# Altium footprint library resistor.PcbLib: 1 footprints
Each footprint in its own frame and in the unit in brackets; x right, y up, seen from the top. Pads: shape width x height; smd on the part's side, far side on the other; paste and mask are expansions set on the pad; w line width, h text height; cw(c..) or ccw(c..) is an arc to the next point about the centre after c.
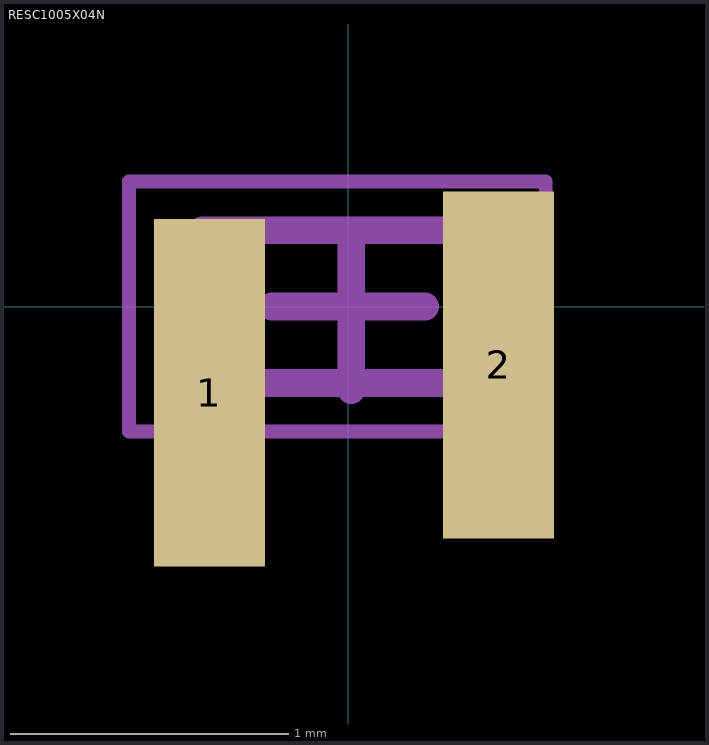
[diagram p0: the footprint, top view; thin cyan lines are the x and y axes]

## RESC1005X04N [mm] "Chip Resistor, 2-Leads, Body 1.00x0.50mm, IPC Medium Density"
height 0.4
pads (2):
  rect 0.4x1.25 smd: 1(-0.5,-0.31) 2(0.54,-0.21)
Mechanical 13:
  lines w0.1: -0.525,-0.275 -0.525,0.275 0.525,0.275 0.525,-0.275 -0.525,-0.275
Mechanical 15:
  lines w0.05: -0.79,-0.45 -0.79,0.45 0.71,0.45 0.71,-0.45 -0.79,-0.45
  lines w0.1: -0.275,0 0.275,0 ; 0.01,-0.3 0.01,0.275
3D body "User Library-d0402h025.STEP": height 0.25, standoff 0, extent -0.45,-0.285 0.55,0.215
3D body "RESC1005X04N.step": height 0.45, standoff 0.05, extent -0.5,-0.31 0.55,0.24